# EAGLE library part MOC3063 (library IC)
http://www.optoinc.com/datasheets/MOC3063.pdf
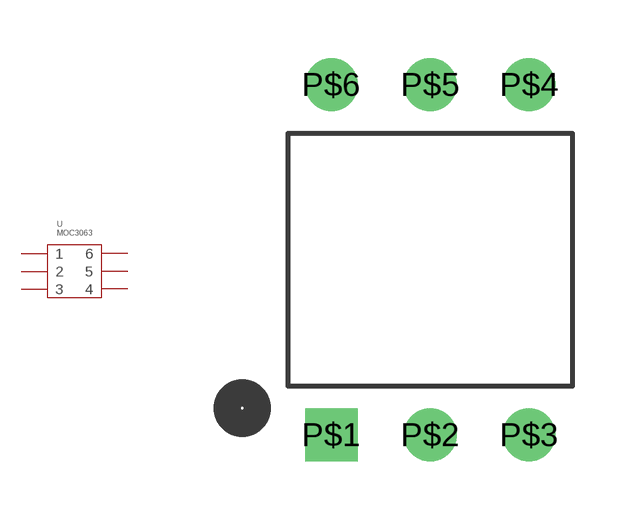
[diagram p109: symbol with the pads of DIP6; footprint DIP6]

Designator prefix U

## MOC3063  [DIP6]
P$1  1
P$2  2
P$3  3  nc
P$4  4
P$5  5
P$6  6

## Footprint DIP6 (pad centres in mm)
drill 0.8 pad 1.35 square: P$1 -2.54,-4.754
drill 0.8 pad 1.35 round: P$2 0,-4.754; P$3 2.54,-4.754; P$4 2.54,4.246; P$5 0,4.246; P$6 -2.54,4.246